# EAGLE library part TPS60100 (library xess)
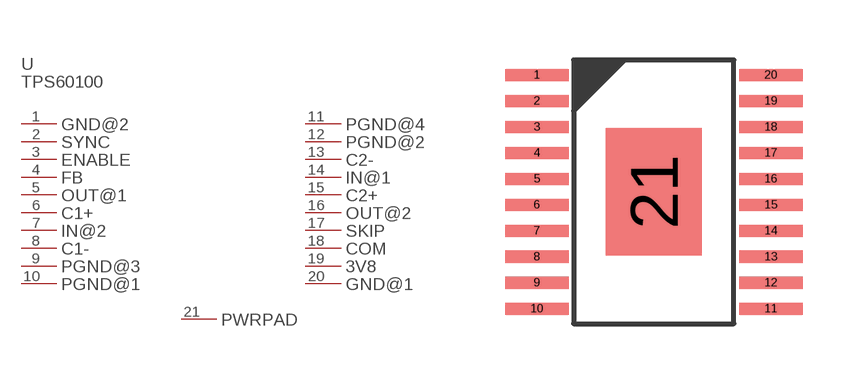
[diagram p67: symbol with the pads of TSSOP20-PWRPAD; footprint TSSOP20-PWRPAD]

Designator prefix U; gates PART_VALUE=PART_VALUE-TPS60100 GND@2=PL-TPS60100 SYNC=PL-TPS60100 ENABLE=PL-TPS60100 FB=PL-TPS60100 OUT@1=PL-TPS60100 C1+=PL-TPS60100 IN@2=PL-TPS60100 C1-=PL-TPS60100 PGND@3=PL-TPS60100 PGND@1=PL-TPS60100 PGND@4=PL-TPS60100 PGND@2=PL-TPS60100 C2-=PL-TPS60100 IN@1=PL-TPS60100 C2+=PL-TPS60100 OUT@2=PL-TPS60100 SKIP=PL-TPS60100 COM=PL-TPS60100 3V8=PL-TPS60100 GND@1=PL-TPS60100 PWRPAD=PL-TPS60100

## TPS60100  [TSSOP20-PWRPAD]
1  GND@2:P$1
2  SYNC:P$1
3  ENABLE:P$1
4  FB:P$1
5  OUT@1:P$1
6  C1+:P$1
7  IN@2:P$1
8  C1-:P$1
9  PGND@3:P$1
10  PGND@1:P$1
11  PGND@4:P$1
12  PGND@2:P$1
13  C2-:P$1
14  IN@1:P$1
15  C2+:P$1
16  OUT@2:P$1
17  SKIP:P$1
18  COM:P$1
19  3V8:P$1
20  GND@1:P$1
21  PWRPAD:P$1

## Footprint TSSOP20-PWRPAD (pad centres in mm)
smd 1.59 x 0.3: 1 0,0; 2 0,-0.65; 3 0,-1.3; 4 0,-1.95; 5 0,-2.6; 6 0,-3.25; 7 0,-3.9; 8 0,-4.55; 9 0,-5.2; 10 0,-5.85; 11 5.85,-5.85; 12 5.85,-5.2; 13 5.85,-4.55; 14 5.85,-3.9; 15 5.85,-3.25; 16 5.85,-2.6; 17 5.85,-1.95; 18 5.85,-1.3; 19 5.85,-0.65; 20 5.85,0
smd 2.4 x 3.18: 21 2.925,-2.926